# Altium schematic symbol library S4B-XH-A-1.SchLib: 1 symbol
Pins are listed as number, name and electrical type; pins without a type are passive.

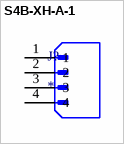
[diagram p0: symbol S4B-XH-A-1]

## S4B-XH-A-1
designator J?
Connector Header Through Hole, Right Angle 4 position 0.098 (2.50mm); MF: JST Sales; MP: S4B-XH-A-1; SnapEDA_Link: https://www.snapeda.com/parts/S4B-XH-A-1/JST+Sales+America+Inc./view-part/?ref=snap; Package: None; Value: *; Check_prices: https://www.snapeda.com/parts/S4B-XH-A-1/JST+Sales+America+Inc./view-part/?ref=eda
footprint JST_S4B-XH-A-1
pins: 1, 2, 3, 4